# Altium schematic symbol library USBSerialModules.SchLib: 1 symbol
Pins are listed as number, name and electrical type; pins without a type are passive.

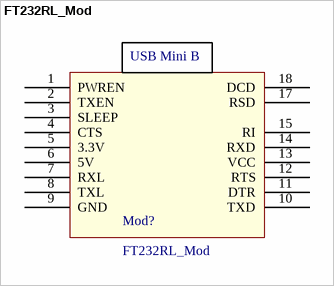
[diagram p0: symbol FT232RL_Mod]

## FT232RL_Mod
designator Mod?
FT232RL USB to Serial Module; Appearance1: http://image.dhgate.com/0x0/f2/albu/g2/M00/E3/C0/rBVaG1WmPgiAO74cAAGcs8q8SoM585.jpg; Appearance2: http://img.banggood.com/thumb/water/upload/2012/lidanpo/SKU116803%20(9).jpg; Appearance3: https://contestimg.wish.com/api/webimage/55acdf7ddc4c3a407e71f577-2-large.jpg
footprint FT232RL_Mod (FT232RL USB to Serial Module)
pins: 1 PWREN, 2 TXEN, 3 SLEEP, 4 CTS, 5 3.3V, 6 5V, 7 RXL, 8 TXL, 9 GND, 10 TXD, 11 DTR, 12 RTS, 13 VCC, 14 RXD, 15 RI, 17 RSD, 18 DCD
text: USB Mini B